# EAGLE library part LM21212 (library sjg-power)
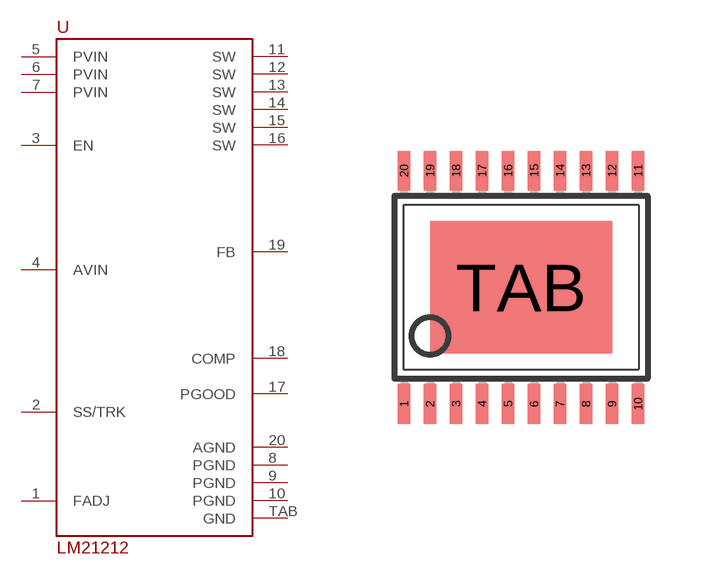
[diagram p7: symbol with the pads of HTSSOP20; footprint HTSSOP20]

Designator prefix -

## LM21212  [HTSSOP20]
1  FADJ
2  SS/TRK
3  EN
4  AVIN
5  PVIN
6  PVIN
7  PVIN
8  PGND
9  PGND
10  PGND
11  SW
12  SW
13  SW
14  SW
15  SW
16  SW
17  PGOOD
18  COMP
19  FB
20  AGND
TAB  GND

## Footprint HTSSOP20 (pad centres in mm)
Thin Shrink Small Outline Plastic 20 MAX3223-MAX3243.pdf
smd 0.305 x 0.991: 1 -2.925,-2.918; 2 -2.275,-2.918; 3 -1.625,-2.918; 4 -0.975,-2.918; 5 -0.325,-2.918; 6 0.325,-2.918; 7 0.975,-2.918; 8 1.625,-2.918; 9 2.275,-2.918; 10 2.925,-2.918; 11 2.925,2.918; 12 2.275,2.918; 13 1.625,2.918; 14 0.975,2.918; 15 0.325,2.918; 16 -0.325,2.918; 17 -0.975,2.918; 18 -1.625,2.918; 19 -2.275,2.918; 20 -2.925,2.918
smd 4.55 x 3.32: TAB 0,0